# Altium footprint library RLC.PcbLib: 144 footprints (part 3 of 9)
Each footprint in its own frame and in the unit in brackets; x right, y up, seen from the top. Pads: shape width x height; smd on the part's side, far side on the other; paste and mask are expansions set on the pad; w line width, h text height; cw(c..) or ccw(c..) is an arc to the next point about the centre after c.
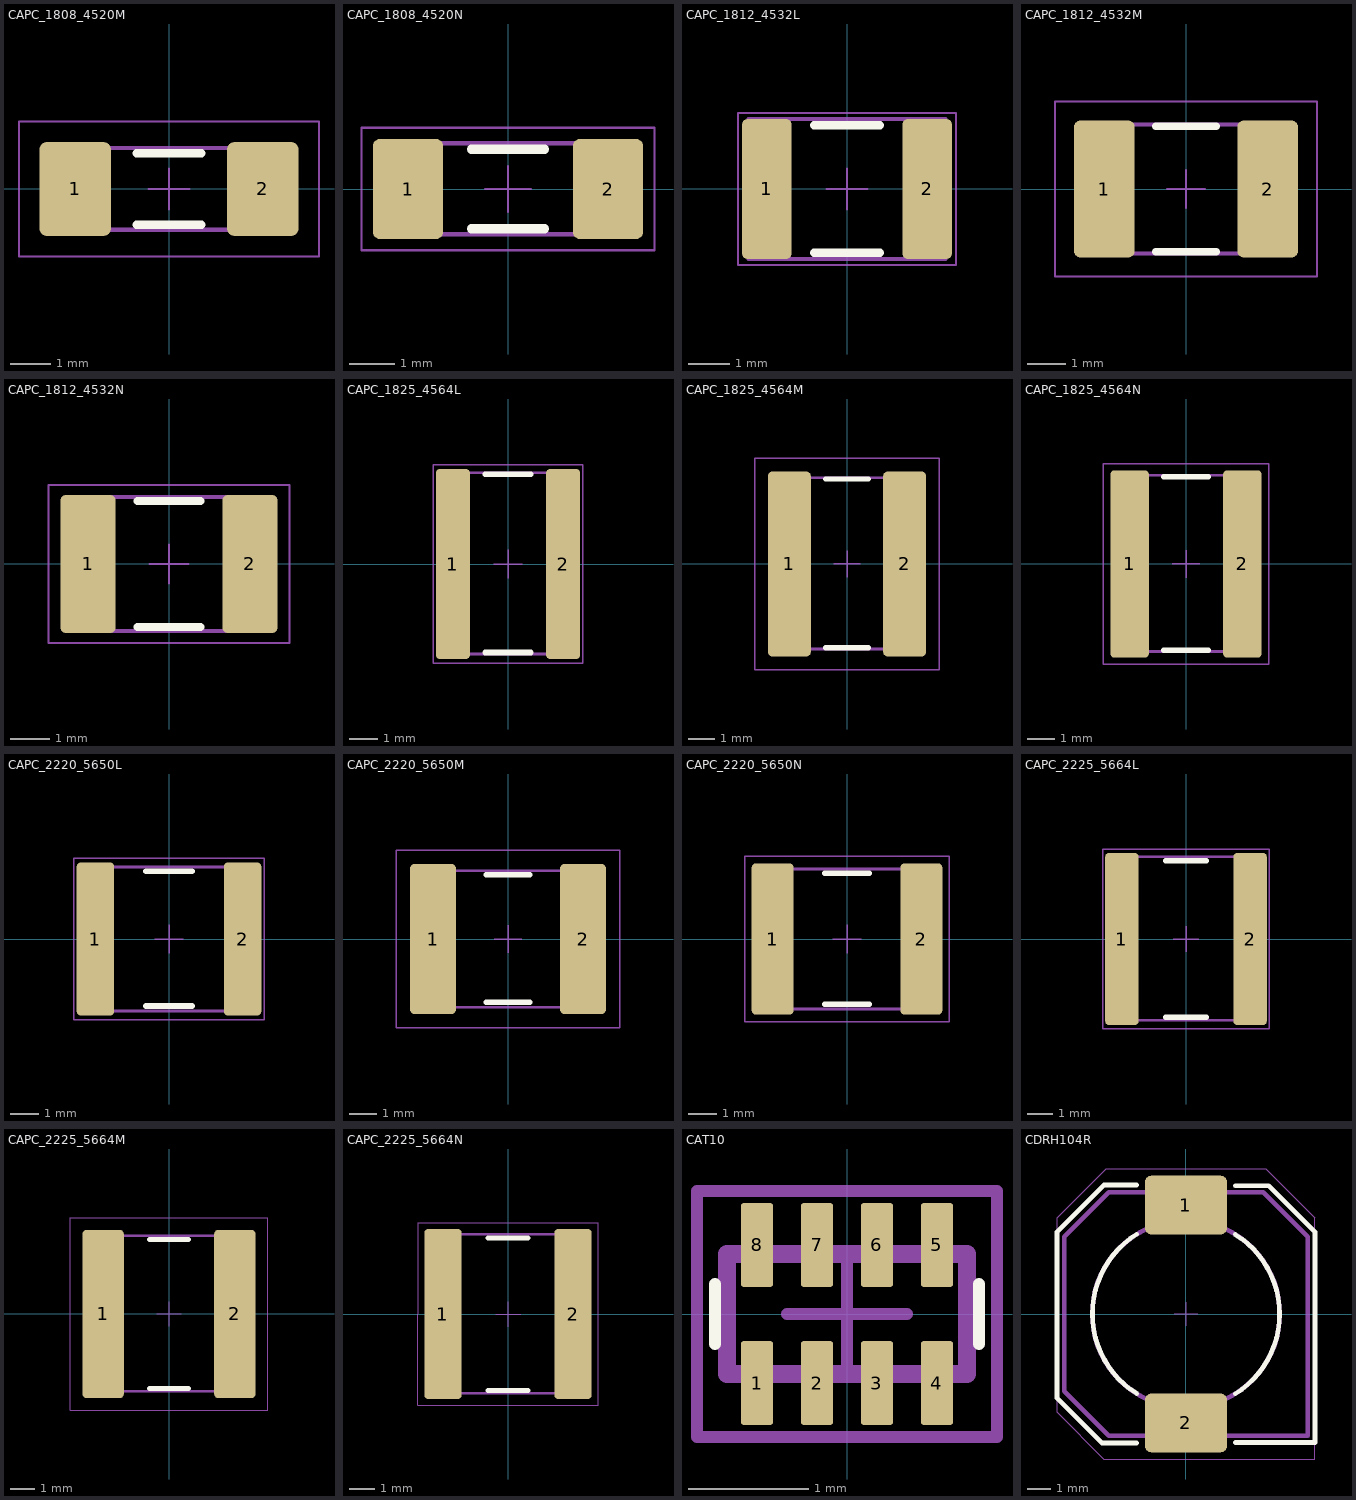
[diagram p2: the footprints below, top view; thin cyan lines are the x and y axes]

## CAPC_1808_4520M [mm] "Chip Capacitor, Body 4.5x2.0mm, IPC High Density"
height 0.71
pads (2):
  rrect20% 1.75x2.3 smd: 1(-2.3,0) 2(2.3,0)
Top Overlay:
  lines w0.2: -0.8,-0.875 0.8,-0.875 ; -0.8,0.875 0.8,0.875
Top Designator:
  text ".Designator" at -2.999,2.2 h0.6
Top Assembly:
  lines w0.1: -2.25,-0.998 2.25,-0.998 2.25,1.002 -2.25,1.002 -2.25,-0.998
Top Courtyard:
  lines w0.05: -3.675,0.75 -3.675,-1.65 ; -0.5,0 0.5,0 ; 0,-0.5 0,0.5 ; -3.675,-1.65 -3.675,1.65 3.675,1.65 3.675,-1.65 -3.675,-1.65

## CAPC_1808_4520N [mm] "Chip Capacitor, Body 4.5x2.0mm, IPC High Density"
height 0.71
pads (2):
  rrect20% 1.55x2.2 smd: 1(-2.2,0) 2(2.2,0)
Top Overlay:
  lines w0.2: -0.8,-0.875 0.8,-0.875 ; -0.8,0.875 0.8,0.875
Top Designator:
  text ".Designator" at -2.999,1.825 h0.6
Top Assembly:
  lines w0.1: -2.25,-0.998 2.25,-0.998 2.25,1.002 -2.25,1.002 -2.25,-0.998
Top Courtyard:
  lines w0.05: -0.5,0 0.5,0 ; 0,-0.5 0,0.5 ; -3.225,-1.35 -3.225,1.35 3.225,1.35 3.225,-1.35 -3.225,-1.35

## CAPC_1812_4532L [mm] "Chip Capacitor, Body 4.5x3.2mm, IPC High Density"
height 0.71
pads (2):
  rrect20% 1.2x3.4 smd: 1(-1.95,0) 2(1.95,0)
Top Overlay:
  lines w0.2: -0.8,-1.55 0.8,-1.55 ; -0.8,1.55 0.8,1.55
Top Designator:
  text ".Designator" at -2.999,2.2 h0.6
Top Assembly:
  lines w0.1: -2.4,-1.7 2.4,-1.7 2.4,1.7 -2.4,1.7 -2.4,-1.7
Top Courtyard:
  lines w0.05: -0.5,0 0.5,0 ; 0,-0.5 0,0.5 ; -2.65,-1.85 2.65,-1.85 2.65,1.85 -2.65,1.85 -2.65,-1.85

## CAPC_1812_4532M [mm] "Chip Capacitor, Body 4.5x3.2mm, IPC Low Density"
height 0.71
pads (2):
  rrect20% 1.6x3.6 smd: 1(-2.15,0) 2(2.15,0)
Top Overlay:
  lines w0.2: -0.8,-1.65 0.8,-1.65 ; -0.8,1.65 0.8,1.65
Top Designator:
  text ".Designator" at -2.999,2.2 h0.6
Top Assembly:
  lines w0.1: -2.4,-1.7 -2.4,1.7 2.4,1.7 2.4,-1.7 -2.4,-1.7
Top Courtyard:
  lines w0.05: -0.5,0 0.5,0 ; 0,-0.5 0,0.5 ; -3.45,-2.3 -3.45,2.3 3.45,2.3 3.45,-2.3 -3.45,-2.3

## CAPC_1812_4532N [mm] "Chip Capacitor, Body 4.5x3.2mm, IPC Medium Density"
height 0.71
pads (2):
  rrect20% 1.4x3.5 smd: 1(-2.05,0) 2(2.05,0)
Top Overlay:
  lines w0.2: -0.8,-1.6 0.8,-1.6 ; -0.8,1.6 0.8,1.6
Top Designator:
  text ".Designator" at -2.999,2.2 h0.6
Top Assembly:
  lines w0.1: -2.4,-1.7 -2.4,1.7 2.4,1.7 2.4,-1.7 -2.4,-1.7
Top Courtyard:
  lines w0.05: -0.5,0 0.5,0 ; 0,-0.5 0,0.5 ; -3.05,-2 -3.05,2 3.05,2 3.05,-2 -3.05,-2

## CAPC_1825_4564L [mm] "Chip Capacitor, Body 4.5x6.4mm, IPC High Density"
height 0.71
pads (2):
  rrect20% 1.2x6.7 smd: 1(-1.95,0) 2(1.95,0)
Top Overlay:
  lines w0.2: -0.8,-3.125 0.8,-3.125 ; -0.8,3.175 0.8,3.175
Top Designator:
  text ".Designator" at -2.949,4.05 h0.6
Top Assembly:
  lines w0.1: -2.25,-3.175 -2.25,3.225 2.25,3.225 2.25,-3.175 -2.25,-3.175
Top Courtyard:
  lines w0.05: -0.5,0 0.5,0 ; 0,-0.5 0,0.5 ; -2.65,-3.5 -2.65,3.5 2.65,3.5 2.65,-3.5 -2.65,-3.5

## CAPC_1825_4564M [mm] "Chip Capacitor, Body 4.5x6.4mm, IPC High Density"
height 0.71
pads (2):
  rrect20% 1.6x6.9 smd: 1(-2.15,0) 2(2.15,0)
Top Overlay:
  lines w0.2: -0.8,-3.125 0.8,-3.125 ; -0.8,3.175 0.8,3.175
Top Designator:
  text ".Designator" at -2.924,4.3 h0.6
Top Assembly:
  lines w0.1: -2.25,-3.175 -2.25,3.225 2.25,3.225 2.25,-3.175 -2.25,-3.175
Top Courtyard:
  lines w0.05: -0.5,0 0.5,0 ; 0,-0.5 0,0.5 ; -3.45,-3.95 -3.45,3.95 3.45,3.95 3.45,-3.95 -3.45,-3.95

## CAPC_1825_4564N [mm] "Chip Capacitor, Body 4.5x6.4mm, IPC High Density"
height 0.71
pads (2):
  rrect20% 1.4x6.8 smd: 1(-2.05,0) 2(2.05,0)
Top Overlay:
  lines w0.2: -0.8,-3.125 0.8,-3.125 ; -0.8,3.175 0.8,3.175
Top Designator:
  text ".Designator" at -2.974,4.2 h0.6
Top Assembly:
  lines w0.1: -2.25,-3.175 2.25,-3.175 2.25,3.225 -2.25,3.225 -2.25,-3.175
Top Courtyard:
  lines w0.05: -0.5,0 0.5,0 ; 0,-0.5 0,0.5 ; -3,-3.65 3,-3.65 3,3.65 -3,3.65 -3,-3.65

## CAPC_2220_5650L [mm] "Chip Capacitor, Body 5.6x5.0mm, IPC High Density"
height 0.71
pads (2):
  rrect20% 1.3x5.3 smd: 1(-2.55,0) 2(2.55,0)
Top Overlay:
  lines w0.2: -0.8,-2.325 0.8,-2.325 ; -0.8,2.35 0.8,2.35
Top Designator:
  text ".Designator" at -2.999,3.225 h0.6
Top Assembly:
  lines w0.1: -2.85,-2.5 2.85,-2.5 2.85,2.5 -2.85,2.5 -2.85,-2.5
Top Courtyard:
  lines w0.05: -0.5,0 0.5,0 ; 0,-0.5 0,0.5 ; -3.3,-2.8 3.3,-2.8 3.3,2.8 -3.3,2.8 -3.3,-2.8

## CAPC_2220_5650M [mm] "Chip Capacitor, Body 5.6x5.0mm, IPC High Density"
height 0.71
pads (2):
  rrect20% 1.7x5.5 smd: 1(-2.75,0) 2(2.75,0)
Top Overlay:
  lines w0.2: -0.8,-2.325 0.8,-2.325 ; -0.8,2.35 0.8,2.35
Top Designator:
  text ".Designator" at -2.949,3.275 h0.6
Top Assembly:
  lines w0.1: -2.85,-2.5 2.85,-2.5 2.85,2.5 -2.85,2.5 -2.85,-2.5
Top Courtyard:
  lines w0.05: -0.5,0 0.5,0 ; 0,-0.5 0,0.5 ; -4.1,-3.25 4.1,-3.25 4.1,3.25 -4.1,3.25 -4.1,-3.25

## CAPC_2220_5650N [mm] "Chip Capacitor, Body 5.6x5.0mm, IPC High Density"
height 0.71
pads (2):
  rrect20% 1.5x5.4 smd: 1(-2.65,0) 2(2.65,0)
Top Overlay:
  lines w0.2: -0.8,-2.325 0.8,-2.325 ; -0.8,2.35 0.8,2.35
Top Designator:
  text ".Designator" at -2.999,3.425 h0.6
Top Assembly:
  lines w0.1: -2.85,-2.5 2.85,-2.5 2.85,2.5 -2.85,2.5 -2.85,-2.5
Top Courtyard:
  lines w0.05: -0.5,0 0.5,0 ; 0,-0.5 0,0.5 ; -3.65,-2.95 3.65,-2.95 3.65,2.95 -3.65,2.95 -3.65,-2.95

## CAPC_2225_5664L [mm] "Chip Capacitor, Body 5.6x6.5mm, IPC High Density"
height 0.71
pads (2):
  rrect20% 1.3x6.7 smd: 1(-2.5,0) 2(2.5,0)
Top Overlay:
  lines w0.2: -0.8,-3.05 0.8,-3.05 ; -0.8,3.05 0.8,3.05
Top Designator:
  text ".Designator" at -2.974,3.85 h0.6
Top Assembly:
  lines w0.1: -2.8,-3.175 2.8,-3.175 2.8,3.2 -2.8,3.2 -2.8,-3.175
Top Courtyard:
  lines w0.05: -0.5,0 0.5,0 ; 0,-0.5 0,0.5 ; -3.25,-3.5 -3.25,3.5 3.25,3.5 3.25,-3.5 -3.25,-3.5

## CAPC_2225_5664M [mm] "Chip Capacitor, Body 5.6x6.5mm, IPC High Density"
height 0.71
pads (2):
  rrect20% 1.7x6.9 smd: 1(-2.7,0) 2(2.7,0)
Top Overlay:
  lines w0.2: -0.8,-3.05 0.8,-3.05 ; -0.8,3.05 0.8,3.05
Top Designator:
  text ".Designator" at -2.999,4.4 h0.6
Top Assembly:
  lines w0.1: -2.8,-3.175 -2.8,3.2 2.8,3.2 2.8,-3.175 -2.8,-3.175
Top Courtyard:
  lines w0.05: -0.5,0 0.5,0 ; 0,-0.5 0,0.5 ; -4.05,-3.95 -4.05,3.95 4.05,3.95 4.05,-3.95 -4.05,-3.95

## CAPC_2225_5664N [mm] "Chip Capacitor, Body 5.6x6.5mm, IPC High Density"
height 0.71
pads (2):
  rrect20% 1.5x6.8 smd: 1(-2.6,0) 2(2.6,0)
Top Overlay:
  lines w0.2: -0.8,-3.05 0.8,-3.05 ; -0.8,3.05 0.8,3.05
Top Designator:
  text ".Designator" at -2.874,4.175 h0.6
Top Assembly:
  lines w0.1: -2.8,-3.175 -2.8,3.2 2.8,3.2 2.8,-3.175 -2.8,-3.175
Top Courtyard:
  lines w0.05: -0.5,0 0.5,0 ; 0,-0.5 0,0.5 ; -3.6,-3.65 3.6,-3.65 3.6,3.65 -3.6,3.65 -3.6,-3.65

## CAT10 [mm] "4 isolated resistors сoncave termination style in an 0804 size  package"
height 0.5
pads (8):
  rrect20% 0.27x0.7 smd: 1(-0.75,-0.575) 2(-0.25,-0.575) 3(0.25,-0.575) 4(0.75,-0.575) 5(0.75,0.575) 6(0.25,0.575) 7(-0.25,0.575) 8(-0.75,0.575)
Top Overlay:
  lines w0.1: -1.1,-0.25 -1.1,0.25 ; 1.1,-0.25 1.1,0.25
Top Designator:
  text ".Designator" at -2.999,1.35 h0.6
Top Assembly:
  lines w0.15: -1,-0.5 -1,0.5 1,0.5 1,-0.5 -1,-0.5
Top Courtyard:
  lines w0.1: -0.5,0 0.5,0 ; 0,-0.5 0,0.5 ; -1.25,-1.025 -1.25,1.025 1.25,1.025 1.25,-1.025 -1.25,-1.025
3D body "User Library-CAT10-000.STEP": height 0.4, standoff 0, extent -1,-0.5 1,0.5

## CDRH104R [mm]
pads (2):
  rrect20% 3.5x2.5 smd paste-25.4: 1(0,4.65) 2(0,-4.65)
Top Overlay:
  lines w0.2: -2.102,3.403 ccw(c0.007,0.005) -2.098,-3.397 ; -2.1,-5.5 -3.6,-5.5 -5.5,-3.6 -5.5,3.5 -3.5,5.5 -2.1,5.5 ; 2.098,3.397 cw(c-0.007,-0.005) 2.102,-3.403 ; 2.1,-5.483 5.5,-5.483 5.5,3.5 3.527,5.473 2.1,5.473
Top Paste:
  region: -1.5,-5.55 1.5,-5.55 1.5,-3.75 -1.5,-3.75
  region: -1.5,3.75 1.5,3.75 1.5,5.55 -1.5,5.55
Top Designator:
  text ".Designator" at -2.999,6.4 h0.6
Top Assembly:
  circle w0.2: c0,0 r4
  lines w0.2: -1.3,-5.2 -1.3,-3.8 ; -1.3,3.8 -1.3,5.2 ; 1.3,-5.2 1.3,-3.8 ; 1.3,3.8 1.3,5.2 ; -5.2,-3.3 -5.2,3.3 -3.3,5.2 0,5.2 3.3,5.2 5.2,3.3 5.2,-5.2 -3.3,-5.2 -5.2,-3.3
Top Courtyard:
  lines w0.05: -0.5,0 0.5,0 ; 0,-0.5 0,0.5 ; -5.5,-4.2 -3.5,-6.2 5.5,-6.2 5.5,4.1 3.4,6.2 -3.4,6.2 -5.5,4.1 -5.5,-4.2
3D body "CDRH104RT125NP330MC--3DModel-STEP-56544.STEP": height 4, standoff 0, extent -5,-5.1 5,5.1